# Altium footprint library GNSS.PcbLib: 23 footprints (part 2 of 2)
Each footprint in its own frame and in the unit in brackets; x right, y up, seen from the top. Pads: shape width x height; smd on the part's side, far side on the other; paste and mask are expansions set on the pad; w line width, h text height; cw(c..) or ccw(c..) is an arc to the next point about the centre after c.
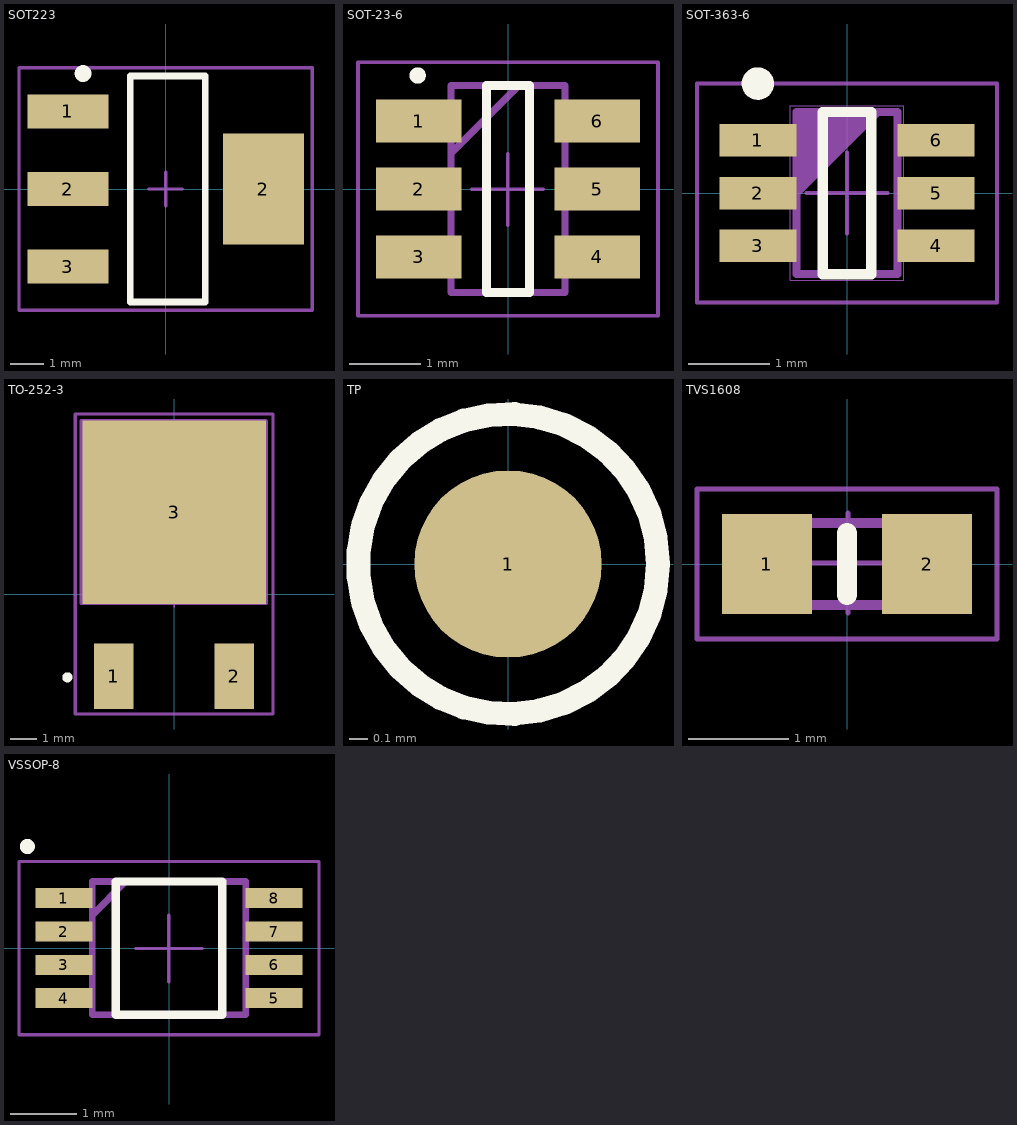
[diagram p1: the footprints below, top view; thin cyan lines are the x and y axes]

## SOT223 [mm]
pads (4):
  rect 2.4x1 smd: 1(-2.9,2.3) 2(-2.9,0) 3(-2.9,-2.3)
  rect 2.4x3.3 smd: 2(2.9,0)
Top Overlay:
  circle w0.25: c-2.45,3.425 r0.125
  lines w0.2: -1.05,-3.35 1.175,-3.35 1.175,3.35 -1.05,3.35 -1.05,-3.35
Mechanical 15:
  lines w0.1: -0.5,0 0.5,0 ; 0,-0.5 0,0.5 ; -4.35,-3.6 4.35,-3.6 4.35,3.6 -4.35,3.6 -4.35,-3.6
3D body "STN715.STEP": height 1.86, standoff 0, extent -3.373,-3.302 3.627,3.198

## SOT-23-6 [mm]
pads (6):
  rect 1.2x0.6 smd: 1(-1.25,0.95) 2(-1.25,0) 3(-1.25,-0.95) 4(1.25,-0.95) 5(1.25,0) 6(1.25,0.95)
Top Overlay:
  circle w0.127: c-1.265,1.589 r0.05
  lines w0.127: -0.3,-1.45 -0.3,1.45 0.3,1.45 0.3,-1.45 -0.3,-1.45
Mechanical 13:
  lines w0.1: -0.8,0.5 0.15,1.45 ; -0.8,-1.45 -0.8,1.45 0.8,1.45 0.8,-1.45 -0.8,-1.45
Mechanical 15:
  lines w0.05: -0.504,-0.006 0.496,-0.006 ; -0.004,-0.506 -0.004,0.494 ; -2.1,-1.775 -2.1,1.775 2.1,1.775 2.1,-1.775 -2.1,-1.775
3D body "SN74LVC1G3157DBVR.stp": height 1.45, standoff 0, extent -1.4,-1.45 1.4,1.45

## SOT-363-6 [mm]
pads (6):
  rect 0.95x0.4 smd mask+0.07: 1(-1.1,0.65) 2(-1.1,0) 3(-1.1,-0.65) 4(1.1,-0.65) 5(1.1,0) 6(1.1,0.65)
Top Overlay:
  circle w0.2: c-1.1,1.35 r0.1
  lines w0.127: -0.3,-1 0.3,-1 0.3,1 -0.3,1 -0.3,-1
Mechanical 13:
  lines w0.1: -0.625,0 0.375,1 ; -0.625,0.1 0.275,1 ; -0.625,0.2 0.175,1 ; -0.625,0.3 0.075,1 ; -0.625,0.4 -0.025,1 ; -0.625,0.5 -0.125,1 ; -0.625,0.6 -0.225,1 ; -0.625,0.7 -0.325,1 ; -0.625,0.8 -0.425,1 ; -0.625,0.9 -0.525,1 ; -0.625,-1 0.625,-1 0.625,1 -0.625,1 -0.625,-1
Mechanical 15:
  lines w0.001: -0.7,-1.075 0.7,-1.075 0.7,1.075 -0.7,1.075 -0.7,-1.075
  lines w0.05: -0.5,0 0.5,0 ; 0,-0.5 0,0.5 ; -1.85,-1.35 1.85,-1.35 1.85,1.35 -1.85,1.35 -1.85,-1.35
3D body "MBT3906DW1T1G.stp": height 1.1, standoff 0, extent -1.05,-1 1.05,1

## TO-252-3 [mm]
pads (3):
  rect 1.5x2.5 smd: 1(-2.3,-3.125) 2(2.3,-3.125)
  rect 7x7 smd: 3(0,3.125)
Top Overlay:
  circle w0.2: c-4.075,-3.175 r0.092
Mechanical 13:
  lines w0.127: -3.55,-0.35 3.525,-0.35 3.525,6.6 3.5,6.625 -3.55,6.625 -3.55,-0.35
Mechanical 15:
  lines w0.05: -0.504,-0.007 0.496,-0.007 ; -0.004,-0.507 -0.004,0.493
  lines w0.127: -3.775,-4.575 3.775,-4.575 3.775,6.875 -3.775,6.875 -3.775,6.325 -3.775,-4.575
3D body "to252-3_p4-56_l6-54_w6-04.stp": height 2.29, standoff -0.01, extent -3.345,-3.545 3.195,6.123

## TP [mm]
pads (1):
  round 1 smd paste-2 mask+0.1: 1(0,0)
Top Overlay:
  circle w0.127: c0,0 r0.8

## TVS1608 [mm]
pads (2):
  rect 0.9x1 smd: 1(-0.8,0) 2(0.8,0)
Top Overlay:
  lines w0.2: 0,-0.312 0,0.312
Mechanical 13:
  lines w0.1: -0.8,-0.412 -0.8,0.412 0.8,0.412 0.8,-0.412 -0.8,-0.412
Mechanical 15:
  lines w0.05: -0.488,0.01 0.512,0.01 ; 0.012,-0.49 0.012,0.51 ; -1.5,-0.75 -1.5,0.75 1.5,0.75 1.5,-0.75 -1.5,-0.75
3D body "PESD0603-240.stp": height 0.55, standoff 0, extent -0.8,-0.412 0.8,0.413

## VSSOP-8 [mm]
pads (8):
  rect 0.85x0.3 smd: 1(-1.575,0.75) 2(-1.575,0.25) 3(-1.575,-0.25) 4(-1.575,-0.75) 5(1.575,-0.75) 6(1.575,-0.25) 7(1.575,0.25) 8(1.575,0.75)
Top Overlay:
  circle w0.127: c-2.125,1.525 r0.05
  lines w0.127: -0.8,-1 0.8,-1 0.8,1 -0.8,1 -0.8,-1
Mechanical 13:
  lines w0.1: -1.15,0.5 -0.65,1 ; -1.15,-1 1.15,-1 1.15,1 -1.15,1 -1.15,-1
Mechanical 15:
  lines w0.05: -0.503,-0.005 0.497,-0.005 ; -0.003,-0.505 -0.003,0.495 ; -2.25,-1.3 2.25,-1.3 2.25,1.3 -2.25,1.3 -2.25,-1.3
3D body "SN74LVC3G07DCUR.stp": height 0.9, standoff 0, extent -1.55,-1 1.55,1